# Altium schematic symbol library 430451815.SchLib: 2 symbols
Pins are listed as number, name and electrical type; pins without a type are passive.

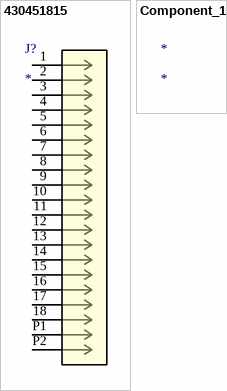
[diagram p0: symbols 430451815 to Component_1]

## 430451815
designator J?
No Description Available; Mfr_Name: Molex Connector Corporation; RefDes: RefDes; Type: Type
footprint CON_430451815_MOL
pins: 1, 2, 3, 4, 5, 6, 7, 8, 9, 10, 11, 12, 13, 14, 15, 16, 17, 18, P1, P2

## Component_1
designator *